# EAGLE library part MCP2517FD(T)-H/? (library micro-Microchip-CANbus)
MCP2517FD The MCP2517FD is a cost-effective and small-footprint CAN FD controller that can be easily added to a microcontroller with an available SPI interface. Therefore, a CAN FD channel can be easily added to a microcontroller that is either lacking a CAN FD peripheral, or that doesn't have enough CAN FD channels. The MCP2517FD supports both, CAN frames in Classical format (CAN2.0B) and CAN Flexible Data Rate (CAN FD) format, as specified in ISO 11898-1:2015. Features 31 FIFOs, configurable as transmit or recieve One Transmit Queue (TXQ) Transmit Event FIFO (TEF) with 32 bit time stamp
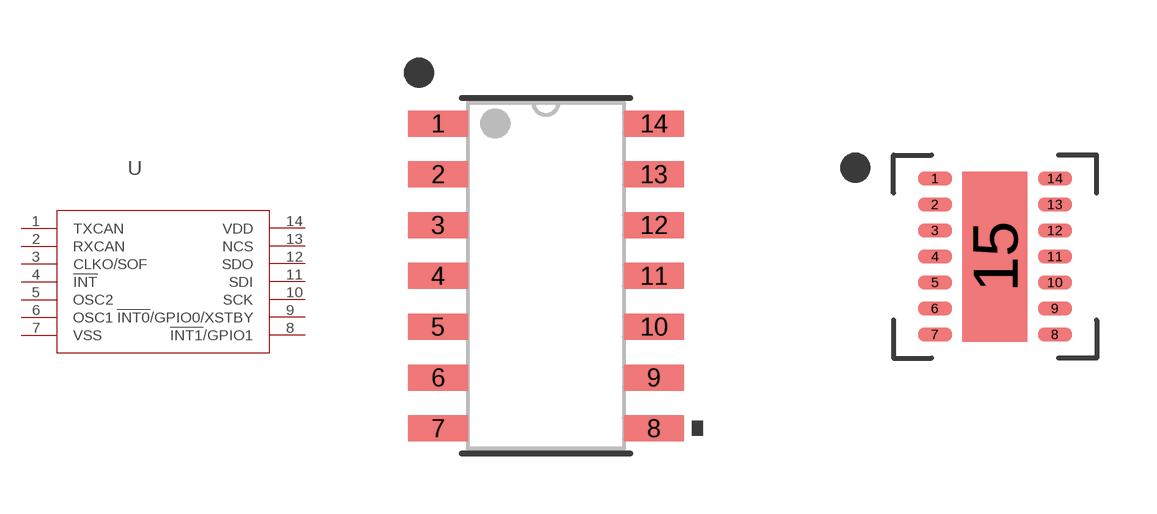
[diagram p2: symbol with the pads of SOIC14-N_MC_SL; footprints SOIC14-N_MC_SL, VDFN14_MC_JHA]

Designator prefix U

## MCP2517FD(T)-H/SL (MPN: MCP2517FD(T)-H/SL)  [SOIC14-N_MC_SL]
1  TXCAN  out
2  RXCAN  in
3  CLKO/SOF  out
4  !INT  out
5  OSC2  out
6  OSC1  in
7  VSS  pas
8  !INT1!/GPIO1
9  !INT0!/GPIO0/XSTBY
10  SCK  in
11  SDI  in
12  SDO  out
13  NCS  in
14  VDD  pwr

## MCP2517FD(T)-H/JHA (MPN: MCP2517FD(T)-H/JHA)  [VDFN14_MC_JHA]
1  TXCAN  out
2  RXCAN  in
3  CLKO/SOF  out
4  !INT  out
5  OSC2  out
6  OSC1  in
7  VSS  pas
8  !INT1!/GPIO1
9  !INT0!/GPIO0/XSTBY
10  SCK  in
11  SDI  in
12  SDO  out
13  NCS  in
14  VDD  pwr
15  VSS  pas

## Footprint SOIC14-N_MC_SL (pad centres in mm)
smd 1.5 x 0.65: 1 -2.7,3.81; 2 -2.7,2.54; 3 -2.7,1.27; 4 -2.7,0; 5 -2.7,-1.27; 6 -2.7,-2.54; 7 -2.7,-3.81; 8 2.7,-3.81; 9 2.7,-2.54; 10 2.7,-1.27; 11 2.7,0; 12 2.7,1.27; 13 2.7,2.54; 14 2.7,3.81

## Footprint VDFN14_MC_JHA (pad centres in mm)
smd 0.85 x 0.35: 1 -1.5,1.95; 2 -1.5,1.3; 3 -1.5,0.65; 4 -1.5,0; 5 -1.5,-0.65; 6 -1.5,-1.3; 7 -1.5,-1.95; 8 1.5,-1.95; 9 1.5,-1.3; 10 1.5,-0.65; 11 1.5,0; 12 1.5,0.65; 13 1.5,1.3; 14 1.5,1.95
smd 1.625 x 4.25: 15 0,0